# Altium footprint library Main.PcbLib: 120 footprints (part 1 of 8)
Each footprint in its own frame and in the unit in brackets; x right, y up, seen from the top. Pads: shape width x height; smd on the part's side, far side on the other; paste and mask are expansions set on the pad; w line width, h text height; cw(c..) or ccw(c..) is an arc to the next point about the centre after c.
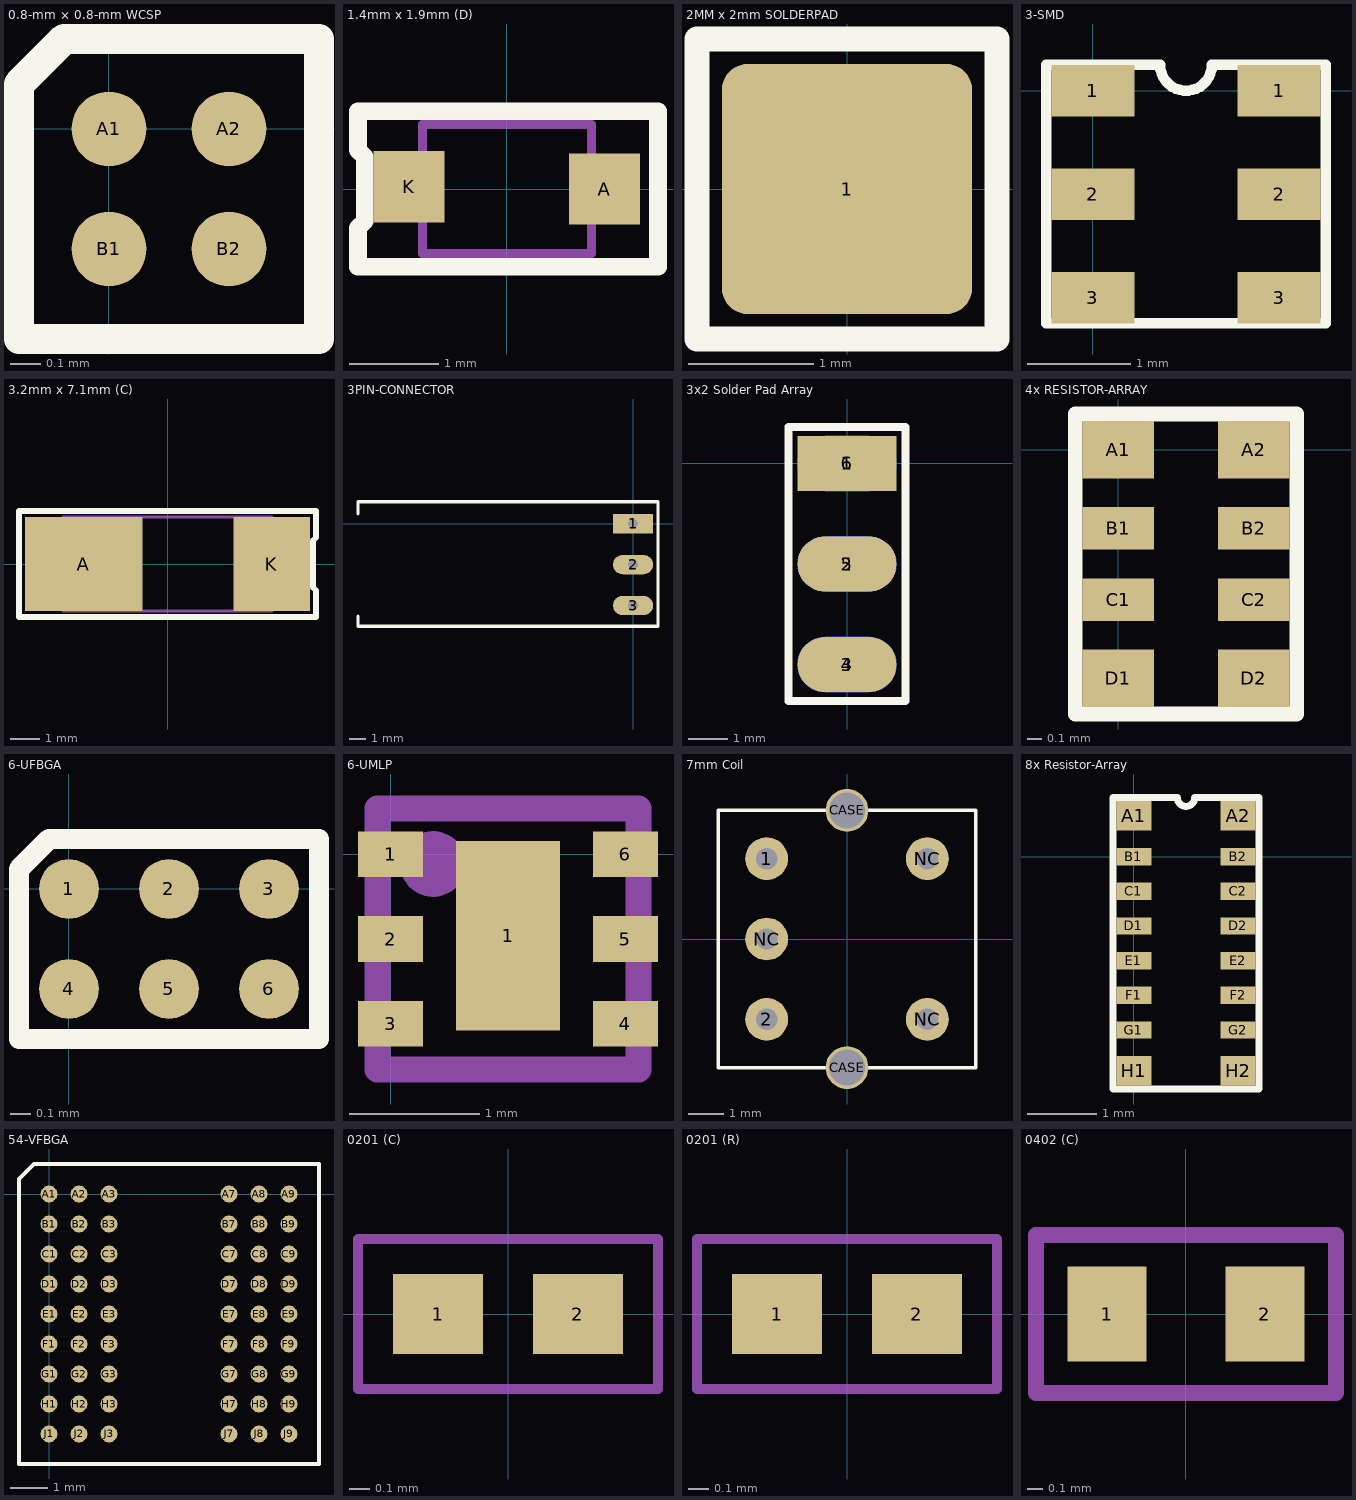
[diagram p0: the footprints below, top view; thin cyan lines are the x and y axes]

## 0.8-mm × 0.8-mm WCSP [mm]
pads (4):
  round 0.25 smd: A1(0,0) A2(0.4,0) B1(0,-0.4) B2(0.4,-0.4)
Top Overlay:
  lines w0.102: -0.3,-0.7 -0.3,0.15 -0.15,0.3 0.7,0.3 0.7,-0.7 -0.3,-0.7
3D body: height 0.5, standoff 0, extent -0.3,-0.7 0.7,0.3

## 1.4mm x 1.9mm (D) [mm]
pads (2):
  rect 0.8x0.8 smd: A(1.1,0) K(-1.1,0.025)
Top Overlay:
  lines w0.2: -1.675,-0.875 1.7,-0.875 1.7,0.875 -1.675,0.875 -1.675,0.437 -1.6,0.362 -1.6,-0.362 -1.675,-0.437 -1.675,-0.875
Mechanical 13:
  lines w0.1: -0.95,-0.725 -0.95,0.725 0.95,0.725 0.95,-0.725 -0.95,-0.725
3D body: height 1.1, standoff 0, extent -0.95,-0.725 0.95,0.725

## 2MM x 2mm SOLDERPAD [mm]
pads (1):
  rrect20% 2x2 smd: 1(0,0)
Top Overlay:
  lines w0.2: -1.2,-1.2 -1.2,1.2 1.2,1.2 1.2,-1.2 -1.2,-1.2

## 3-SMD [mm]
pads (6):
  rect 0.8x0.5 smd: 1(0,0) 1(1.8,0) 2(0,-1) 2(1.8,-1) 3(0,-2) 3(1.8,-2)
Top Overlay:
  lines w0.102: -0.45,-2.25 -0.45,0.25 0.65,0.25 ccw(c0.9,0.25) 1.15,0.25 2.25,0.25 2.25,-2.25 -0.45,-2.25
3D body: height 1.2, standoff 0, extent -0.125,-2.25 1.875,0.25

## 3.2mm x 7.1mm (C) [mm] "Chip Resistor, 2-Leads, Body 3.2x1.6mm, IPC Low Density"
height 0.55
pads (2):
  rect 4x3.2 smd: A(-2.85,0)
  rect 2.6x3.2 smd: K(3.55,0)
Top Overlay:
  lines w0.2: -5.05,-1.8 -5.05,1.8 5.05,1.8 5.05,0.9 4.95,0.8 4.95,-0.8 5.05,-0.9 5.05,-1.8 -5.05,-1.8
Mechanical 13:
  lines w0.1: -3.55,-1.6 -3.55,1.6 3.55,1.6 3.55,-1.6 -3.55,-1.6
3D body: height 2, standoff 0, extent -3.55,-1.6 3.55,1.6

## 3PIN-CONNECTOR [mm]
pads (3):
  rect 2.5x1.2 hole 0.6: 1(0,0)
  oval 2.5x1.2 hole 0.6: 2(0,-2.54) 3(0,-5.08)
Top Overlay:
  lines w0.2: -17.1,-5.725 -17.1,-6.375 1.55,-6.375 1.55,1.375 -17.1,1.375 -17.1,0.6
3D body: height 1.66, standoff -3.12, extent -0.35,-5.425 0.35,-4.725
3D body: height 1.66, standoff 0.96, extent -9.1,-5.425 0,-4.725
3D body: height 1.66, standoff -3.12, extent -0.35,-2.9 0.35,-2.2
3D body: height 1.66, standoff 0.96, extent -9.1,-2.9 0,-2.2
3D body: height 1.66, standoff 0.96, extent -9.1,-0.35 0,0.35
3D body: height 1.66, standoff -3.12, extent -0.35,-0.35 0.35,0.35
3D body: height 2.5, standoff 0, extent -3.8,-6.262 -1.325,1.262

## 3x2 Solder Pad Array [mm]
pads (6):
  rect 2.5x1.4 smd: 1(0,0)
  oval 2.5x1.4 smd: 2(0,-2.54) 3(0,-5.08)
  oval 2.5x1.4 smd far side: 4(0,-5.08) 5(0,-2.54) 6(0,0)
Top Overlay:
  lines w0.2: -1.475,-6 1.475,-6 1.475,0.925 -1.475,0.925 -1.475,-6

## 4x RESISTOR-ARRAY [mm]
pads (8):
  rect 0.5x0.4 smd: A1(0,0) A2(0.95,0) D1(0,-1.6) D2(0.95,-1.6)
  rect 0.5x0.3 smd: B1(0,-0.55) B2(0.95,-0.55) C1(0,-1.05) C2(0.95,-1.05)
Top Overlay:
  lines w0.102: -0.3,-1.85 1.25,-1.85 1.25,0.25 -0.3,0.25 -0.3,-1.85
3D body: height 0.4, standoff 0, extent -0.025,-1.8 0.975,-1.4
3D body: height 0.4, standoff 0, extent -0.025,-1.2 0.975,-0.9
3D body: height 0.4, standoff 0, extent -0.025,-0.7 0.975,-0.4
3D body: height 0.4, standoff 0, extent -0.025,-0.2 0.975,0.2
3D body: height 0.45, standoff 0, extent 0.125,-1.775 0.825,0.175

## 6-UFBGA [mm]
pads (6):
  round 0.3 smd: 1(0,0) 2(0.5,0) 3(1,0) 4(0,-0.5) 5(0.5,-0.5) 6(1,-0.5)
Top Overlay:
  lines w0.102: -0.25,-0.75 1.25,-0.75 1.25,0.25 -0.1,0.25 -0.25,0.1 -0.25,-0.75
3D body: height 0.6, standoff 0, extent -0.237,-0.737 1.238,0.238

## 6-UMLP [mm]
pads (7):
  rect 0.5x0.35 smd: 1(0,0) 2(0,-0.65) 3(0,-1.3) 4(1.8,-1.3) 5(1.8,-0.65) 6(1.8,0)
  rect 0.8x1.45 smd: 1(0.9,-0.625)
Mechanical 29:
  circle w0.254: c0.325,-0.075 r0.125
  lines w0.2: -0.1,-1.65 1.9,-1.65 1.9,0.35 -0.1,0.35 -0.1,-1.65
  text ".Designator" at 0.4,-0.825 h0.38
3D body: height 0.55, standoff 0, extent -0.1,-1.65 1.9,0.35

## 7mm Coil [mm]
pads (7):
  round 1.2 hole 0.6: 1(-2.25,2.25) 2(-2.25,-2.25) NC(-2.25,0) NC(2.25,-2.25) NC(2.25,2.25)
  round 1.2 hole 1: CASE(0,-3.6) CASE(0,3.6)
Top Overlay:
  lines w0.102: -3.6,-3.6 3.6,-3.6 3.6,3.6 -3.6,3.6 -3.6,-3.6
3D body: height 8.9, standoff 0, extent -3.6,-3.6 3.6,3.6

## 8x Resistor-Array [mm]
pads (16):
  rect 0.5x0.425 smd: A1(0,0.587) A2(1.5,0.587) H1(0,-3.087) H2(1.5,-3.087)
  rect 0.5x0.25 smd: B1(0,0) B2(1.5,0) C1(0,-0.5) C2(1.5,-0.5) D1(0,-1) D2(1.5,-1) E1(0,-1.5) E2(1.5,-1.5) F1(0,-2) F2(1.5,-2) G1(0,-2.5) G2(1.5,-2.5)
Top Overlay:
  lines w0.102: -0.3,-3.35 1.8,-3.35 1.8,0.85 0.875,0.85 cw(c0.75,0.85) 0.625,0.85 -0.3,0.85 -0.3,-3.35
3D body: height 0.4, standoff 0, extent -0.05,-3.175 1.55,-2.825
3D body: height 0.4, standoff 0, extent -0.05,-1.675 1.55,-1.325
3D body: height 0.4, standoff 0, extent -0.05,-2.175 1.55,-1.825
3D body: height 0.4, standoff 0, extent -0.05,-2.675 1.55,-2.325
3D body: height 0.4, standoff 0, extent -0.05,-1.175 1.55,-0.825
3D body: height 0.4, standoff 0, extent -0.05,-0.675 1.55,-0.325
3D body: height 0.4, standoff 0, extent -0.05,-0.175 1.55,0.175
3D body: height 0.45, standoff 0, extent 0.25,-3.15 1.25,0.65
3D body: height 0.4, standoff 0, extent -0.05,0.325 1.55,0.675

## 54-VFBGA [mm]
pads (54):
  round 0.45 smd: A1(0,0) A2(0.8,0) A3(1.6,0) A7(4.8,0) A8(5.6,0) A9(6.4,0) B1(0,-0.8) B2(0.8,-0.8) B3(1.6,-0.8) B7(4.8,-0.8) B8(5.6,-0.8) B9(6.4,-0.8) C1(0,-1.6) C2(0.8,-1.6) C3(1.6,-1.6) C7(4.8,-1.6) C8(5.6,-1.6) C9(6.4,-1.6) D1(0,-2.4) D2(0.8,-2.4) D3(1.6,-2.4) D7(4.8,-2.4) D8(5.6,-2.4) D9(6.4,-2.4) E1(0,-3.2) E2(0.8,-3.2) E3(1.6,-3.2) E7(4.8,-3.2) E8(5.6,-3.2) E9(6.4,-3.2) F1(0,-4) F2(0.8,-4) F3(1.6,-4) F7(4.8,-4) F8(5.6,-4) F9(6.4,-4) G1(0,-4.8) G2(0.8,-4.8) G3(1.6,-4.8) G7(4.8,-4.8) G8(5.6,-4.8) G9(6.4,-4.8) H1(0,-5.6) H2(0.8,-5.6) H3(1.6,-5.6) H7(4.8,-5.6) H8(5.6,-5.6) H9(6.4,-5.6) J1(0,-6.4) J2(0.8,-6.4) J3(1.6,-6.4) J7(4.8,-6.4) J8(5.6,-6.4) J9(6.4,-6.4)
Top Overlay:
  lines w0.102: -0.8,-7.2 -0.8,0.4 -0.4,0.8 7.2,0.8 7.2,-7.2 -0.8,-7.2
3D body: height 1, standoff 0, extent -0.8,-7.2 7.2,0.8

## 0201 (C) [mm]
pads (2):
  rect 0.45x0.4 smd: 1(-0.35,0) 2(0.35,0)
Mechanical 29:
  lines w0.05: -0.75,-0.375 0.75,-0.375 0.75,0.375 -0.75,0.375 -0.75,-0.375
  text ".Designator" at -0.5,-0.2 h0.38
3D body: height 0.3, standoff 0, extent 0.125,-0.15 0.35,0.15
3D body: height 0.3, standoff 0, extent -0.35,-0.15 -0.125,0.15
3D body: height 0.29, standoff 0, extent -0.325,-0.125 0.325,0.125

## 0201 (R) [mm]
pads (2):
  rect 0.45x0.4 smd: 1(-0.35,0) 2(0.35,0)
Mechanical 29:
  lines w0.05: -0.75,-0.375 -0.75,0.375 0.75,0.375 0.75,-0.375 -0.75,-0.375
  text ".Designator" at -0.5,-0.2 h0.38
3D body: height 0.29, standoff 0, extent -0.325,-0.125 0.325,0.125
3D body: height 0.3, standoff 0, extent -0.35,-0.15 -0.125,0.15
3D body: height 0.3, standoff 0, extent 0.125,-0.15 0.35,0.15

## 0402 (C) [mm]
pads (2):
  rect 0.5x0.6 smd: 1(-0.5,0) 2(0.5,0)
Mechanical 29:
  lines w0.102: -0.95,-0.5 0.95,-0.5 0.95,0.5 -0.95,0.5 -0.95,-0.5
  text ".Designator" at -0.5,-0.2 h0.38
3D body: height 0.41, standoff 0, extent 0.225,-0.25 0.5,0.25
3D body: height 0.41, standoff 0, extent -0.5,-0.25 -0.225,0.25
3D body: height 0.4, standoff 0, extent -0.487,-0.237 0.488,0.238